# EAGLE library part PCB_DISI_CONNECTOR (library deneyap_board_erkek_pcb_lib)
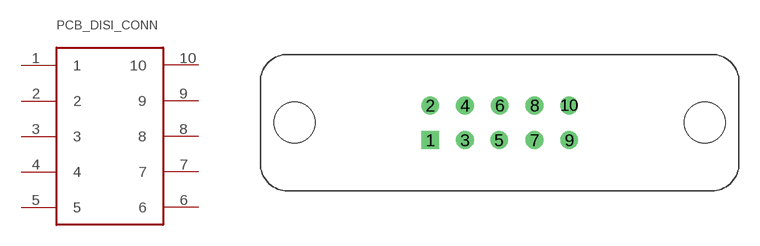
[diagram p1: symbol with the pads of PCB_DISI_CONNECTOR; footprint PCB_DISI_CONNECTOR]

Designator prefix -

## PCB_DISI_CONNECTORA  [PCB_DISI_CONNECTOR]
1  1
2  2
3  3
4  4
5  5
6  6
7  7
8  8
9  9
10  10

## Footprint PCB_DISI_CONNECTOR (pad centres in mm)
drill 0.8 square: 1 12.42,3.73
drill 0.8: 2 12.42,6.27; 3 14.96,3.73; 4 14.96,6.27; 5 17.46,3.73; 6 17.5,6.27; 7 20.04,3.73; 8 20.04,6.27; 9 22.58,3.73; 10 22.58,6.27
hole 3 at 2.5,5
hole 3 at 32.5,5